# EAGLE library part MICS-8 (library con-lumberg)
CONNECTOR
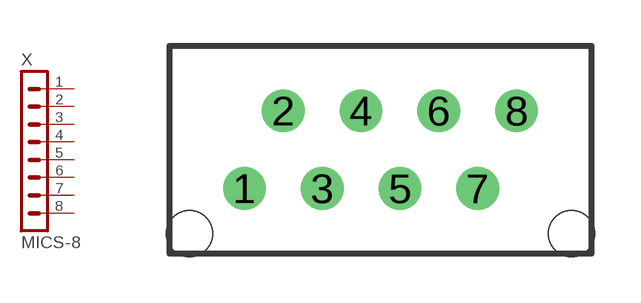
[diagram p1: symbol with the pads of MICS-8; footprint MICS-8]

Designator prefix X

## MICS-8  [MICS-8]
1  1  pas
2  2  pas
3  3  pas
4  4  pas
5  5  pas
6  6  pas
7  7  pas
8  8  pas

## Footprint MICS-8 (pad centres in mm)
CONNECTOR
drill 0.85 pad 1.397 round: 1 -4.445,-1.27; 2 -3.175,1.27; 3 -1.905,-1.27; 4 -0.635,1.27; 5 0.635,-1.27; 6 1.905,1.27; 7 3.175,-1.27; 8 4.445,1.27
hole 1.5 at 6.245,-2.75
hole 1.5 at -6.245,-2.75